# Altium schematic symbol library Modules.SchLib: 5 symbols
Pins are listed as number, name and electrical type; pins without a type are passive.

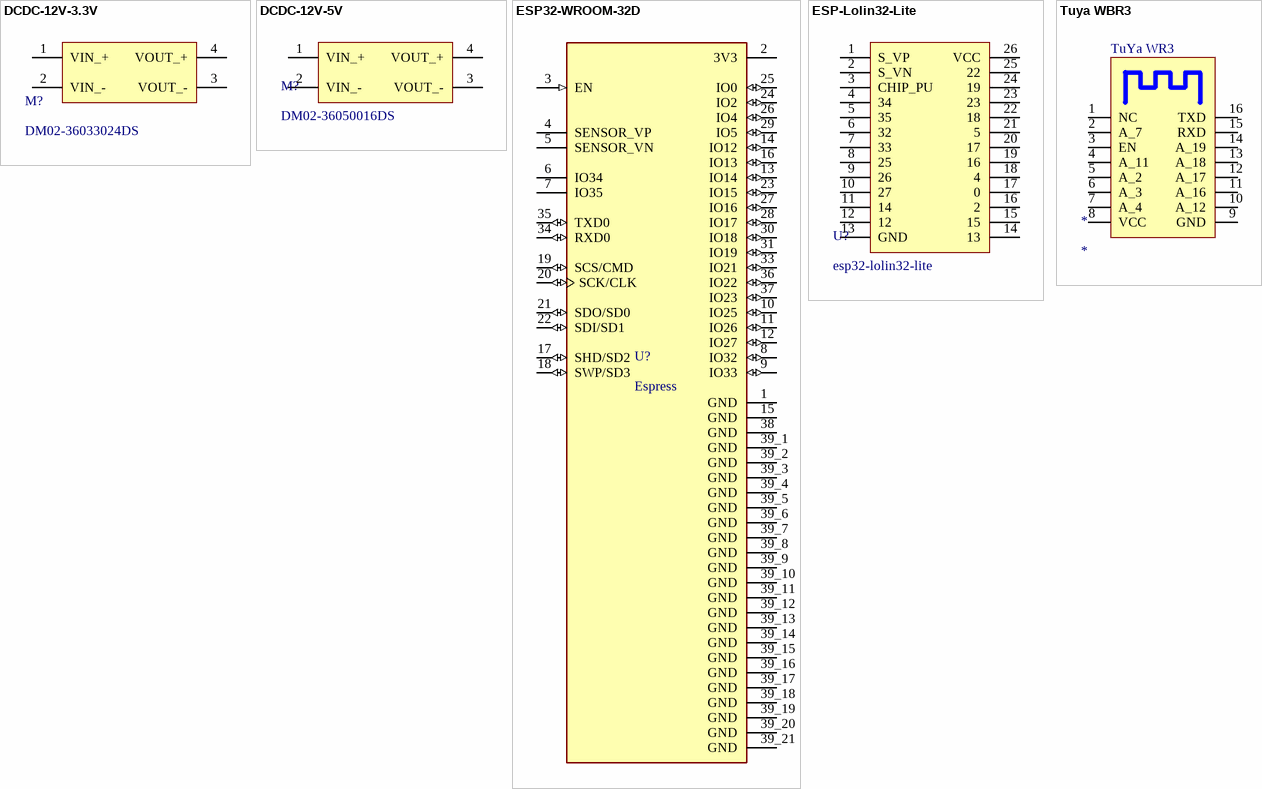
[diagram p0: symbols DCDC-12V-3.3V to Tuya WBR3]

## DCDC-12V-3.3V
designator M?, comment DM02-36033024DS
Input: 5.5~36V / Output: 3.3V / Current: 2.4A; ComponentLink1Description: Taobao; ComponentLink1URL: https://item.taobao.com/item.htm?spm=a230r.1.14.11.76d4523534TYLV&id=535347655147&ns=1&abbucket=16#detail
pins: 1 VIN_+, 2 VIN_-, 3 VOUT_-, 4 VOUT_+

## DCDC-12V-5V
designator M?, comment DM02-36050016DS
Input: 5.5~36V / Output: 5V / Current: 1.6A
pins: 1 VIN_+, 2 VIN_-, 3 VOUT_-, 4 VOUT_+

## ESP32-WROOM-32D
designator U?, comment Espress
footprint MODULE_ESP32-WROOM-32D
pins: 1 GND (power), 2 3V3 (power), 3 EN (in), 4 SENSOR_VP, 5 SENSOR_VN, 6 IO34, 7 IO35, 8 IO32 (io), 9 IO33 (io), 10 IO25 (io), 11 IO26 (io), 12 IO27 (io), 13 IO14 (io), 14 IO12 (io), 15 GND (power), 16 IO13 (io), 17 SHD/SD2 (io), 18 SWP/SD3 (io), 19 SCS/CMD (io), 20 SCK/CLK (io), 21 SDO/SD0 (io), 22 SDI/SD1 (io), 23 IO15 (io), 24 IO2 (io), 25 IO0 (io), 26 IO4 (io), 27 IO16 (io), 28 IO17 (io), 29 IO5 (io), 30 IO18 (io), 31 IO19 (io), 33 IO21 (io), 34 RXD0 (io), 35 TXD0 (io), 36 IO22 (io), 37 IO23 (io), 38 GND (power), 39_1 GND (power), 39_2 GND (power), 39_3 GND (power), 39_4 GND (power), 39_5 GND (power), 39_6 GND (power), 39_7 GND (power), 39_8 GND (power), 39_9 GND (power), 39_10 GND (power), 39_11 GND (power), 39_12 GND (power), 39_13 GND (power), 39_14 GND (power), 39_15 GND (power), 39_16 GND (power), 39_17 GND (power), 39_18 GND (power), 39_19 GND (power), 39_20 GND (power), 39_21 GND (power)

## ESP-Lolin32-Lite
designator U?, comment esp32-lolin32-lite
ESP 32 4MB Flash; ComponentLink1Description: 1688; ComponentLink1URL: https://detail.1688.com/offer/649147120775.html?spm=a360q.8274423.0.0.49c84c9aTFzaPB
pins: 1 S_VP, 2 S_VN, 3 CHIP_PU, 4 34, 5 35, 6 32, 7 33, 8 25, 9 26, 10 27, 11 14, 12, 13 GND, 14 13, 15, 16 2, 17 0, 18 4, 19 16, 20 17, 21 5, 22 18, 23, 24 19, 25 22, 26 VCC

## Tuya WBR3
designator *
footprint TuYa_module_WR3 (BLE&WIFI模块)
pins: 1 NC, 2 A_7, 3 EN, 4 A_11, 5 A_2, 6 A_3, 7 A_4, 8 VCC (power), 9 GND, 10 A_12, 11 A_16, 12 A_17, 13 A_18, 14 A_19, 15 RXD, 16 TXD
text: TuYa WR3